# Altium footprint library Passive_Devices.PcbLib: 31 footprints (part 2 of 2)
Each footprint in its own frame and in the unit in brackets; x right, y up, seen from the top. Pads: shape width x height; smd on the part's side, far side on the other; paste and mask are expansions set on the pad; w line width, h text height; cw(c..) or ccw(c..) is an arc to the next point about the centre after c.
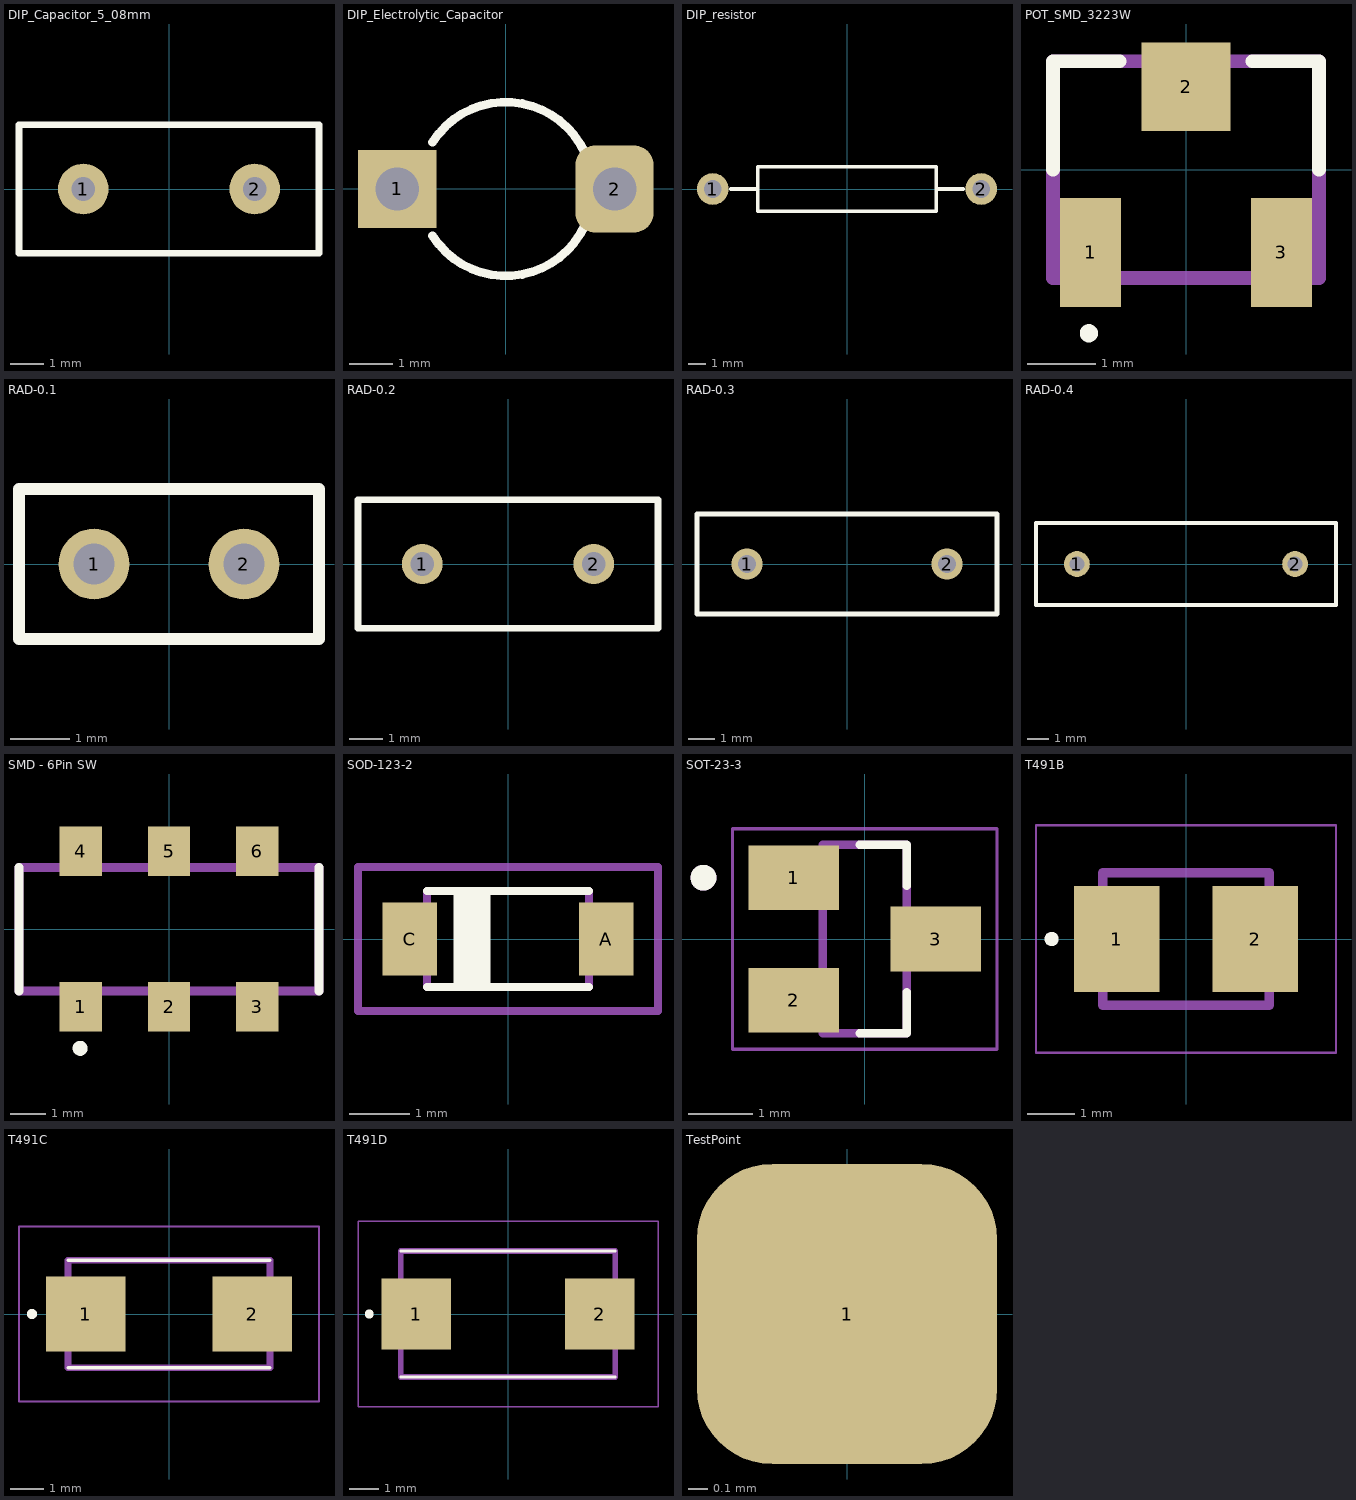
[diagram p1: the footprints below, top view; thin cyan lines are the x and y axes]

## DIP_Capacitor_5_08mm [mm] "Radial Capacitor, Thru-Hole; 2 Leads; 5.08mm Pin Spacing"
pads (2):
  round 1.5 hole 0.7: 1(-2.54,0) 2(2.54,0)
Top Overlay:
  lines w0.2: -4.445,-1.905 -4.445,1.905 4.445,1.905 4.445,-1.905 -4.445,-1.905

## DIP_Electrolytic_Capacitor [mm] "DIP Electrolytic Capacitor; 2 Leads; Pin spacing 5mm"
height 12
pads (2):
  rect 1.8x1.8 hole 1: 1(-2.5,0)
  rrect50% 1.8x2 hole 1: 2(2.5,0)
Top Overlay:
  lines w0.2: -1.687,-1.075 ccw(c0,0) 1.819,-0.832 ; -1.687,1.075 cw(c0,0) 1.819,0.832

## DIP_resistor [mm] "Thru-Hole; Resistor 2 Leads; 15.24mm Pin Spacing"
height 2.54
pads (2):
  round 1.8 hole 1: 1(-7.62,0) 2(7.62,0)
Top Overlay:
  lines w0.2: -6.604,0 -5.08,0 ; 5.08,0 6.604,0 ; -5.08,-1.27 -5.08,1.27 5.08,1.27 5.08,-1.27 -5.08,-1.27

## POT_SMD_3223W [mm] "3 pin SMD potentiometer 3 mm Square Bourns"
pads (3):
  rect 0.9x1.6 smd: 1(-1.4,-1.215) 3(1.4,-1.215)
  rect 1.3x1.3 smd: 2(0,1.215)
Top Overlay:
  circle w0.2: c-1.425,-2.401 r0.033
  lines w0.2: -1.95,0 -1.95,1.59 -0.971,1.59 ; 0.971,1.59 1.95,1.59 1.95,0
Mechanical 13:
  lines w0.2: -1.95,-1.59 1.95,-1.59 1.95,1.59 -1.95,1.59 -1.95,-1.59

## RAD-0.1 [mm] "Radial Cap, Thru-Hole; 2 Leads; 0.1 in Pin Spacing"
pads (2):
  round 1.2 hole 0.7: 1(-1.27,0) 2(1.27,0)
Top Overlay:
  lines w0.2: -2.54,-1.27 -2.54,1.27 2.54,1.27 2.54,-1.27 -2.54,-1.27

## RAD-0.2 [mm] "Radial Cap, Thru-Hole; 2 Leads; 0.2 in Pin Spacing"
pads (2):
  round 1.2 hole 0.7: 1(-2.54,0) 2(2.54,0)
Top Overlay:
  lines w0.2: -4.445,-1.905 4.445,-1.905 4.445,1.905 -4.445,1.905 -4.445,-1.905

## RAD-0.3 [mm] "Radial Cap, Thru-Hole; 2 Leads; 0.3 in Pin Spacing"
height 6
pads (2):
  round 1.2 hole 0.7: 1(-3.81,0) 2(3.81,0)
Top Overlay:
  lines w0.2: -5.715,-1.905 5.715,-1.905 5.715,1.905 -5.715,1.905 -5.715,-1.905

## RAD-0.4 [mm] "Radial Cap, Thru-Hole; 2 Leads; 0.4 in Pin Spacing"
pads (2):
  round 1.2 hole 0.7: 1(-5.08,0) 2(5.08,0)
Top Overlay:
  lines w0.2: -6.985,-1.905 -6.985,1.905 6.985,1.905 6.985,-1.905 -6.985,-1.905

## SMD - 6Pin SW [mm]
pads (6):
  rect 1.2x1.4 smd: 1(-2.5,-2.2) 2(0,-2.2) 3(2.5,-2.2) 4(-2.5,2.2) 5(0,2.2) 6(2.5,2.2)
Top Overlay:
  circle w0.254: c-2.517,-3.38 r0.084
  lines w0.254: -4.25,-1.75 -4.25,1.75 ; 4.25,-1.75 4.25,1.75
Mechanical 13:
  lines w0.254: -4.25,-1.75 4.25,-1.75 4.25,1.75 -4.25,1.75 -4.25,-1.75
3D body "SSSS213202.stp": height 5.8, standoff 0, extent -4.25,-2.5 4.25,2.5

## SOD-123-2 [mm]
pads (2):
  rect 0.91x1.22 smd: A(1.635,0) C(-1.635,0)
Top Overlay:
  region: -0.3,-0.801 -0.901,-0.801 -0.901,0.8 -0.3,0.8
  lines w0.127: -1.35,-0.8 1.35,-0.8 ; -1.35,0.8 1.35,0.8
Mechanical 13:
  lines w0.127: -1.35,-0.8 -1.35,0.8 ; 1.35,-0.8 1.35,0.8
Mechanical 15:
  lines w0.127: -2.5,-1.2 -2.5,1.2 2.5,1.2 2.5,-1.2 -2.5,-1.2
3D body "step_temp.STEP": height 1.35, standoff 0, extent -1.841,-0.8 1.841,0.8

## SOT-23-3 [mm]
height 1.2
pads (3):
  rect 1.4x1 smd: 1(-1.1,0.95) 2(-1.1,-0.95) 3(1.1,0)
Top Overlay:
  circle w0.2: c-2.5,0.95 r0.1
  lines w0.127: -0.08,-1.46 0.65,-1.46 0.65,-0.82 ; -0.08,1.46 0.65,1.46 0.65,0.82
Mechanical 13:
  circle w0.2: c-2.5,0.95 r0.1
  lines w0.127: -0.65,-1.46 -0.65,1.46 0.65,1.46 0.65,-1.46 -0.65,-1.46
Mechanical 15:
  lines w0.05: -2.05,-1.71 2.05,-1.71 2.05,1.71 -2.05,1.71 -2.05,-1.71
3D body "step_temp.STEP": height 1.2, standoff 0, extent -1.2,-1.46 1.2,1.46

## T491B [mm] "Kemet Tantalum case B"
pads (2):
  rect 1.8x2.23 smd: 1(-1.46,0) 2(1.46,0)
Top Overlay:
  circle w0.2: c-2.831,0 r0.05
Mechanical 13:
  lines w0.2: -1.75,-1.4 1.75,-1.4 1.75,1.4 -1.75,1.4 -1.75,-1.4
Mechanical 15:
  lines w0.05: -3.16,-2.4 3.16,-2.4 3.16,2.4 -3.16,2.4 -3.16,-2.4
3D body "T491B106K016AT.stp": height 2.1, standoff 0, extent -1.85,-1.5 1.85,1.5

## T491C [mm] "Kemet Tantalum case C"
pads (2):
  rect 2.37x2.23 smd: 1(-2.47,0) 2(2.47,0)
Top Overlay:
  circle w0.2: c-4.07,0 r0.05
  lines w0.1: -3,-1.6 3,-1.6 ; -3,1.6 3,1.6
Mechanical 13:
  lines w0.2: -3,-1.6 3,-1.6 3,1.6 -3,1.6 -3,-1.6
Mechanical 15:
  lines w0.05: -4.455,-2.6 4.455,-2.6 4.455,2.6 -4.455,2.6 -4.455,-2.6
3D body "T491C106K025AT.stp": height 2.81, standoff 0, extent -3.15,-1.75 3.15,1.75

## T491D [mm] "Kemet Tantalum case D"
pads (2):
  rect 2.37x2.43 smd: 1(-3.12,0) 2(3.12,0)
Top Overlay:
  circle w0.2: c-4.72,0 r0.05
  lines w0.1: -3.65,-2.15 3.65,-2.15 ; -3.65,2.15 3.65,2.15
Mechanical 13:
  lines w0.2: -3.65,-2.15 -3.65,2.15 3.65,2.15 3.65,-2.15 -3.65,-2.15
Mechanical 15:
  lines w0.05: -5.105,-3.15 -5.105,3.15 5.105,3.15 5.105,-3.15 -5.105,-3.15
3D body "T491D685K035AT.stp": height 3.11, standoff 0, extent -3.8,-2.3 3.8,2.3

## TestPoint [mil]
pads (1):
  rrect50% 60x60 smd paste-99999: 1(0,0)